# Altium schematic symbol library CSD15380F3T.SchLib: 1 symbol
Pins are listed as number, name and electrical type; pins without a type are passive.

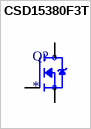
[diagram p0: symbol CSD15380F3T]

## CSD15380F3T
designator Q?
20-V N-Channel FemtoFET MOSFET 3-PICOSTAR -55 to 150; MF: {'manufacturer': u'Texas Instruments'}; MP: CSD15380F3T; Value: *; Package: None; Price: None; Availability: Unavailable
footprint TRXDFN69X60X35-3N
pins: 1 G, 2 S, 3 D